# Altium schematic symbol library Toradex.SchLib: 1 symbol
Pins are listed as number, name and electrical type; pins without a type are passive.

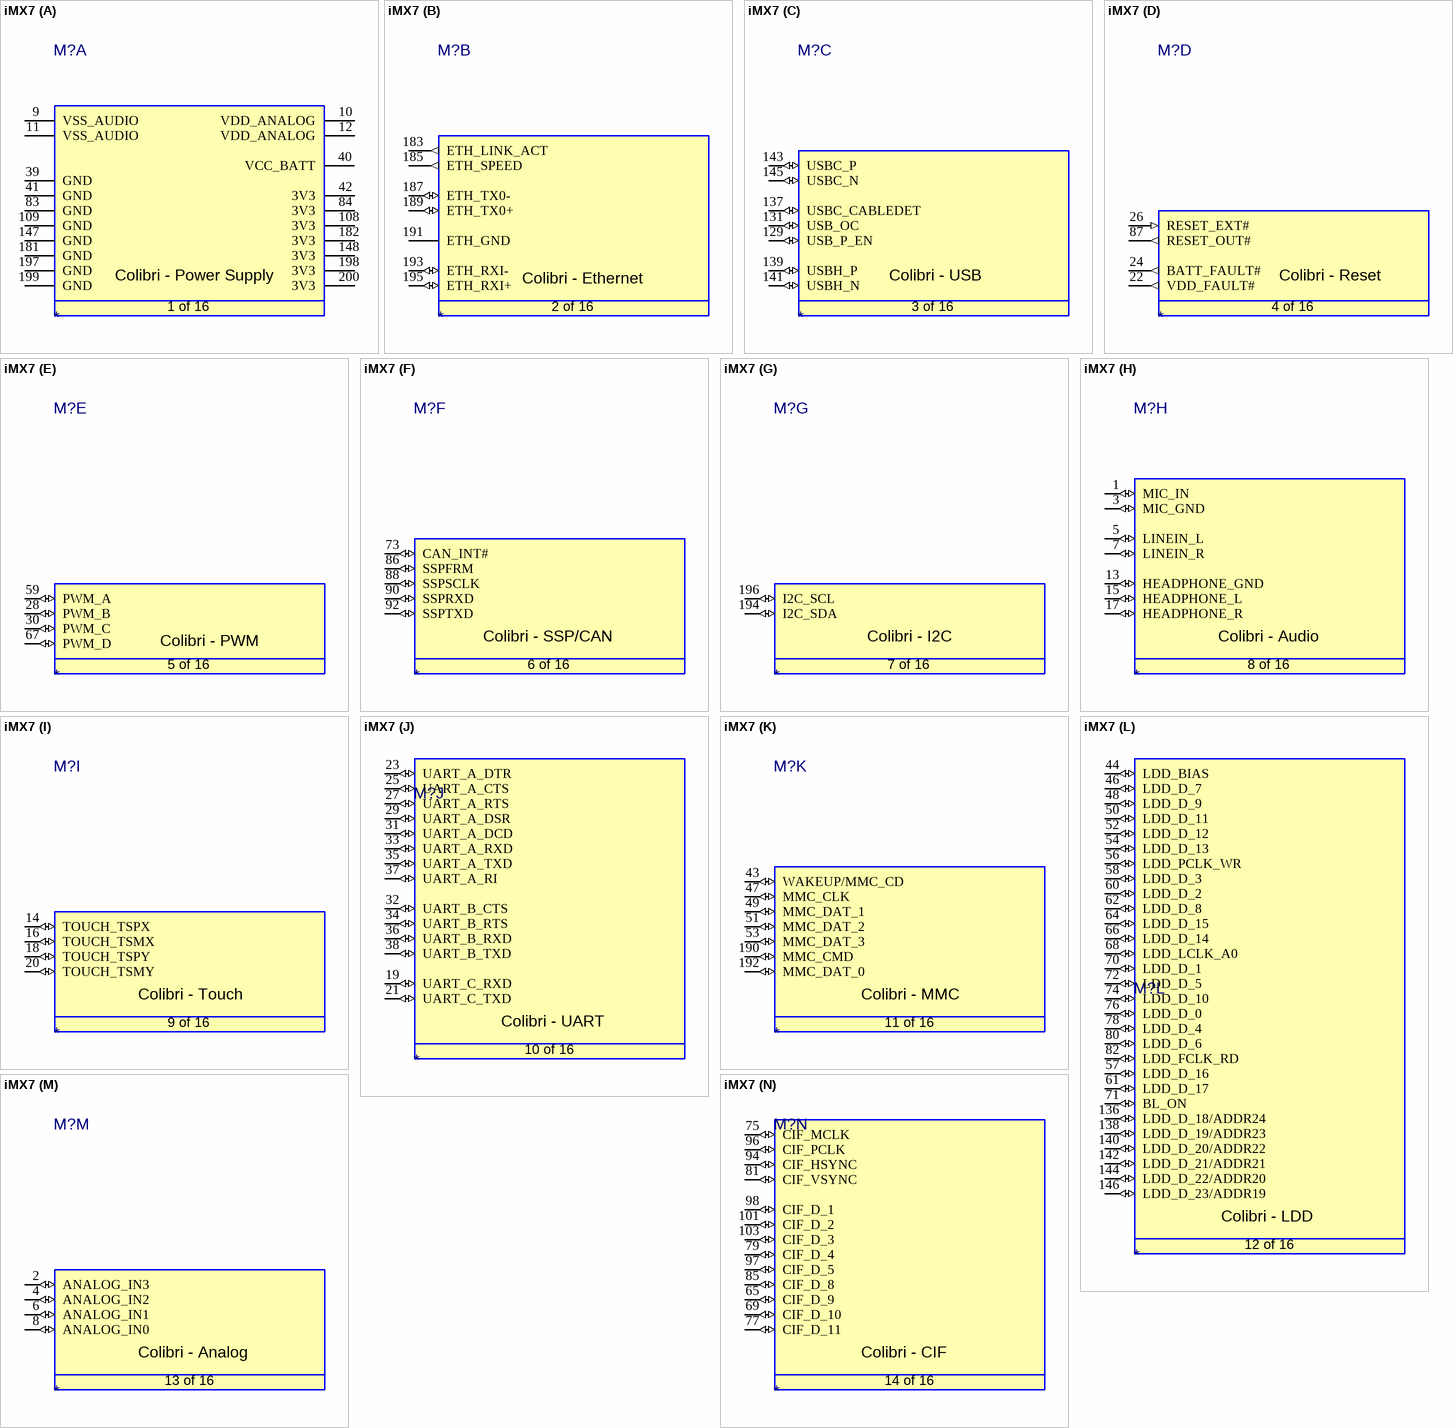
[diagram p0: symbol iMX7]

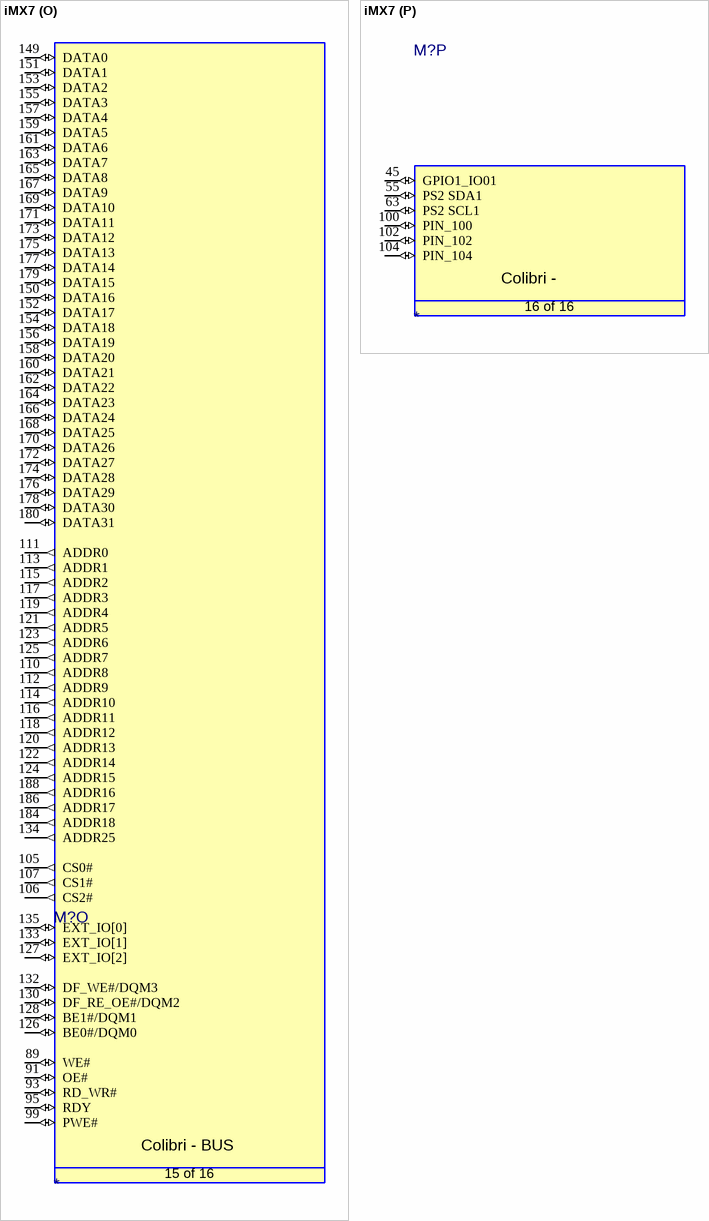
[diagram p1: symbol iMX7]

## iMX7
designator M?
part A pins: 9 VSS_AUDIO, 10 VDD_ANALOG (power), 11 VSS_AUDIO, 12 VDD_ANALOG (power), 39 GND (power), 40 VCC_BATT (power), 41 GND (power), 42 3V3 (power), 83 GND (power), 84 3V3 (power), 108 3V3 (power), 109 GND (power), 147 GND (power), 148 3V3 (power), 181 GND (power), 182 3V3 (power), 197 GND (power), 198 3V3 (power), 199 GND (power), 200 3V3 (power)
part B pins: 183 ETH_LINK_ACT (out), 185 ETH_SPEED (out), 187 ETH_TX0- (io), 189 ETH_TX0+ (io), 191 ETH_GND (power), 193 ETH_RXI- (io), 195 ETH_RXI+ (io)
part C pins: 129 USB_P_EN (io), 131 USB_OC (io), 137 USBC_CABLEDET (io), 139 USBH_P (io), 141 USBH_N (io), 143 USBC_P (io), 145 USBC_N (io)
part D pins: 22 VDD_FAULT# (out), 24 BATT_FAULT# (out), 26 RESET_EXT# (in), 87 RESET_OUT# (out)
part E pins: 28 PWM_B (io), 30 PWM_C (io), 59 PWM_A (io), 67 PWM_D (io)
part F pins: 73 CAN_INT# (io), 86 SSPFRM (io), 88 SSPSCLK (io), 90 SSPRXD (io), 92 SSPTXD (io)
part G pins: 194 I2C_SDA (io), 196 I2C_SCL (io)
part H pins: 1 MIC_IN (io), 3 MIC_GND (io), 5 LINEIN_L (io), 7 LINEIN_R (io), 13 HEADPHONE_GND (io), 15 HEADPHONE_L (io), 17 HEADPHONE_R (io)
part I pins: 14 TOUCH_TSPX (io), 16 TOUCH_TSMX (io), 18 TOUCH_TSPY (io), 20 TOUCH_TSMY (io)
part J pins: 19 UART_C_RXD (io), 21 UART_C_TXD (io), 23 UART_A_DTR (io), 25 UART_A_CTS (io), 27 UART_A_RTS (io), 29 UART_A_DSR (io), 31 UART_A_DCD (io), 32 UART_B_CTS (io), 33 UART_A_RXD (io), 34 UART_B_RTS (io), 35 UART_A_TXD (io), 36 UART_B_RXD (io), 37 UART_A_RI (io), 38 UART_B_TXD (io)
part K pins: 43 WAKEUP/MMC_CD (io), 47 MMC_CLK (io), 49 MMC_DAT_1 (io), 51 MMC_DAT_2 (io), 53 MMC_DAT_3 (io), 190 MMC_CMD (io), 192 MMC_DAT_0 (io)
part L pins: 44 LDD_BIAS (io), 46 LDD_D_7 (io), 48 LDD_D_9 (io), 50 LDD_D_11 (io), 52 LDD_D_12 (io), 54 LDD_D_13 (io), 56 LDD_PCLK_WR (io), 57 LDD_D_16 (io), 58 LDD_D_3 (io), 60 LDD_D_2 (io), 61 LDD_D_17 (io), 62 LDD_D_8 (io), 64 LDD_D_15 (io), 66 LDD_D_14 (io), 68 LDD_LCLK_A0 (io), 70 LDD_D_1 (io), 71 BL_ON (io), 72 LDD_D_5 (io), 74 LDD_D_10 (io), 76 LDD_D_0 (io), 78 LDD_D_4 (io), 80 LDD_D_6 (io), 82 LDD_FCLK_RD (io), 136 LDD_D_18/ADDR24 (io), 138 LDD_D_19/ADDR23 (io), 140 LDD_D_20/ADDR22 (io), 142 LDD_D_21/ADDR21 (io), 144 LDD_D_22/ADDR20 (io), 146 LDD_D_23/ADDR19 (io)
part M pins: 2 ANALOG_IN3 (io), 4 ANALOG_IN2 (io), 6 ANALOG_IN1 (io), 8 ANALOG_IN0 (io)
part N pins: 65 CIF_D_9 (io), 69 CIF_D_10 (io), 75 CIF_MCLK (io), 77 CIF_D_11 (io), 79 CIF_D_4 (io), 81 CIF_VSYNC (io), 85 CIF_D_8 (io), 94 CIF_HSYNC (io), 96 CIF_PCLK (io), 97 CIF_D_5 (io), 98 CIF_D_1 (io), 101 CIF_D_2 (io), 103 CIF_D_3 (io)
part O pins: 89 WE# (io), 91 OE# (io), 93 RD_WR# (io), 95 RDY (io), 99 PWE# (io), 105 CS0# (out), 106 CS2# (out), 107 CS1# (out), 110 ADDR8 (out), 111 ADDR0 (out), 112 ADDR9 (out), 113 ADDR1 (out), 114 ADDR10 (out), 115 ADDR2 (out), 116 ADDR11 (out), 117 ADDR3 (out), 118 ADDR12 (out), 119 ADDR4 (out), 120 ADDR13 (out), 121 ADDR5 (out), 122 ADDR14 (out), 123 ADDR6 (out), 124 ADDR15 (out), 125 ADDR7 (out), 126 BE0#/DQM0 (io), 127 EXT_IO[2] (io), 128 BE1#/DQM1 (io), 130 DF_RE_OE#/DQM2 (io), 132 DF_WE#/DQM3 (io), 133 EXT_IO[1] (io), 134 ADDR25 (out), 135 EXT_IO[0] (io), 149 DATA0 (io), 150 DATA16 (io), 151 DATA1 (io), 152 DATA17 (io), 153 DATA2 (io), 154 DATA18 (io), 155 DATA3 (io), 156 DATA19 (io), 157 DATA4 (io), 158 DATA20 (io), 159 DATA5 (io), 160 DATA21 (io), 161 DATA6 (io), 162 DATA22 (io), 163 DATA7 (io), 164 DATA23 (io), 165 DATA8 (io), 166 DATA24 (io), 167 DATA9 (io), 168 DATA25 (io), 169 DATA10 (io), 170 DATA26 (io), 171 DATA11 (io), 172 DATA27 (io), 173 DATA12 (io), 174 DATA28 (io), 175 DATA13 (io), 176 DATA29 (io), 177 DATA14 (io), 178 DATA30 (io), 179 DATA15 (io), 180 DATA31 (io), 184 ADDR18 (out), 186 ADDR17 (out), 188 ADDR16 (out)
part P pins: 45 GPIO1_IO01 (io), 55 PS2 SDA1 (io), 63 PS2 SCL1 (io), 100 PIN_100 (io), 102 PIN_102 (io), 104 PIN_104 (io)
part A text: Colibri - Power Supply; 1 of 16
part B text: Colibri - Ethernet; 2 of 16
part C text: Colibri - USB; 3 of 16
part D text: Colibri - Reset; 4 of 16
part E text: Colibri - PWM; 5 of 16
part F text: Colibri - SSP/CAN; 6 of 16
part G text: Colibri - I2C; 7 of 16
part H text: Colibri - Audio; 8 of 16
part I text: Colibri - Touch; 9 of 16
part J text: Colibri - UART; 10 of 16
part K text: Colibri - MMC; 11 of 16
part L text: Colibri - LDD; 12 of 16
part M text: Colibri - Analog; 13 of 16
part N text: Colibri - CIF; 14 of 16
part O text: Colibri - BUS; 15 of 16
part P text: Colibri -; 16 of 16